# Altium footprint library M50-3500642.PcbLib: 1 footprints
Each footprint in its own frame and in the unit in brackets; x right, y up, seen from the top. Pads: shape width x height; smd on the part's side, far side on the other; paste and mask are expansions set on the pad; w line width, h text height; cw(c..) or ccw(c..) is an arc to the next point about the centre after c.
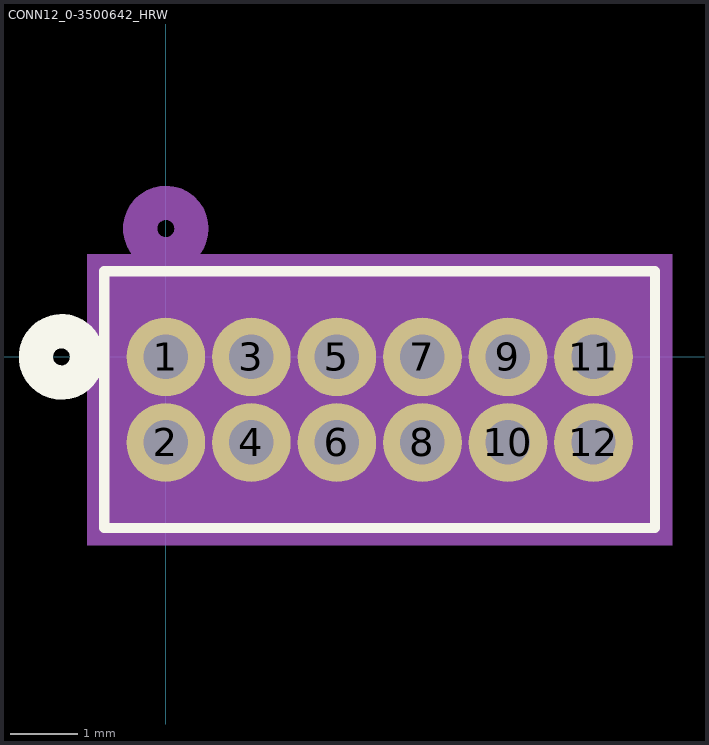
[diagram p0: the footprint, top view; thin cyan lines are the x and y axes]

## CONN12_0-3500642_HRW [mil]
pads (12):
  round 46 hole 26 mask+0: 1(0,0) 2(0,-50) 3(50,0) 4(50,-50) 5(100,0) 6(100,-50) 7(150,0) 8(150,-50) 9(200,0) 10(200,-50) 11(250,0) 12(250,-50)
Top Overlay:
  circle w20: c-61,0 r15
  lines w6: -36,-100 286,-100 286,50 -36,50 -36,-100
Bottom Overlay:
  circle w20: c-61,0 r15
Mechanical 5:
  region: -46,60 296,60 296,-110 -46,-110
Mechanical 13:
  circle w20: c0,75 r15
  lines w1: -31,-95 281,-95 281,45 -31,45 -31,-95
Mechanical 15:
  region: 291,55 -41,55 -41,-105 291,-105
  lines w6: -41,-105 -41,55 291,55 291,-105 -41,-105
3D body: height 10, standoff 0, extent 0,0 10,10